# Altium integrated library molex-micro-fit-3.0.IntLib: 194 symbols (part 2 of 2)
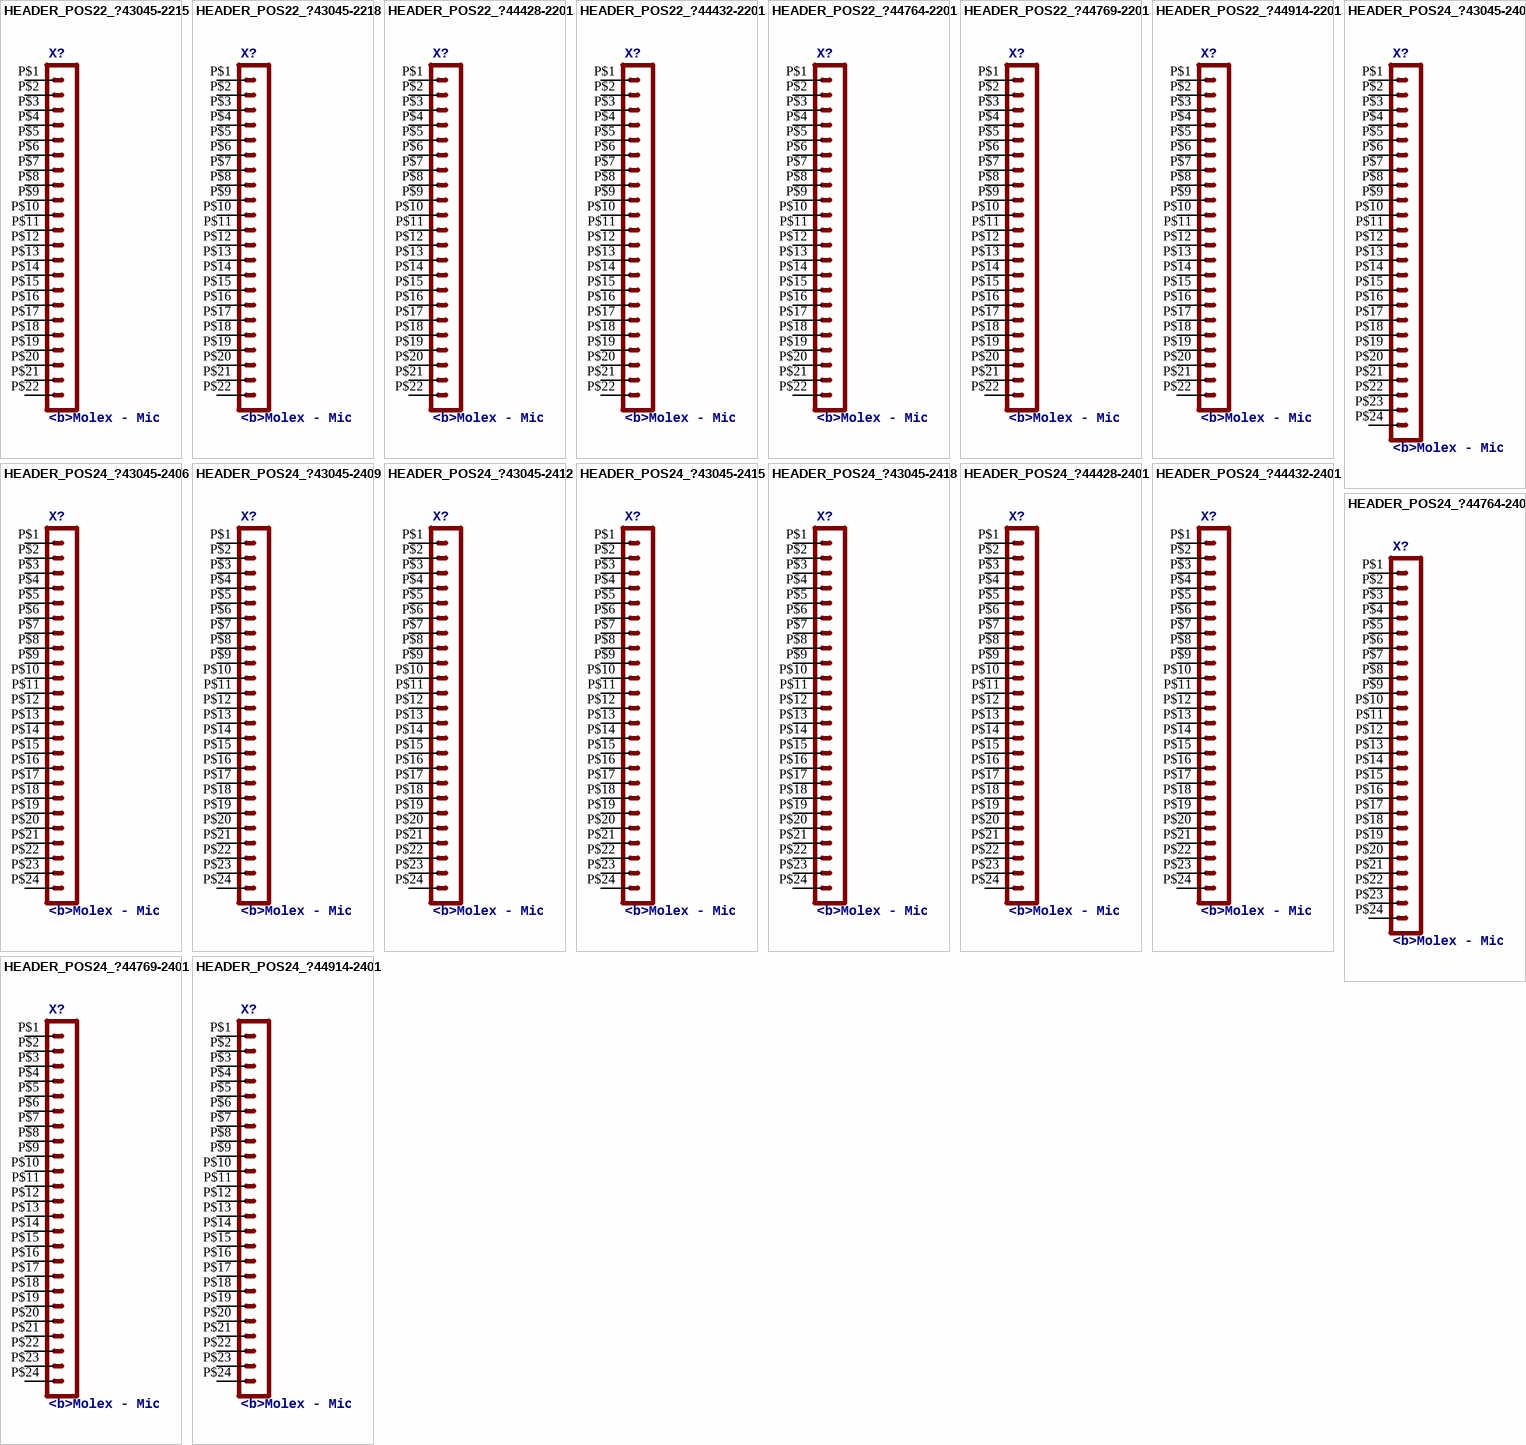
[diagram p6: symbols HEADER_POS22_?43045-2215 to HEADER_POS24_?44914-2401]

## HEADER_POS24_?44769-2401
designator X?, comment <b>Molex - Micro-Fit 3.0 Series connector,  3.00mm (0.118") pitch header, 24 positions.</b><p>
footprint 44769-2401
pins: P$1 1, P$2 2, P$3 3, P$4 4, P$5 5, P$6 6, P$7 7, P$8 8, P$9 9, P$10 10, P$11 11, P$12 12, P$13 13, P$14 14, P$15 15, P$16 16, P$17 17, P$18 18, P$19 19, P$20 20, P$21 21, P$22 22, P$23 23, P$24 24

## HEADER_POS24_?44914-2401
designator X?, comment <b>Molex - Micro-Fit 3.0 Series connector,  3.00mm (0.118") pitch header, 24 positions.</b><p>
footprint 44914-2401
pins: P$1 1, P$2 2, P$3 3, P$4 4, P$5 5, P$6 6, P$7 7, P$8 8, P$9 9, P$10 10, P$11 11, P$12 12, P$13 13, P$14 14, P$15 15, P$16 16, P$17 17, P$18 18, P$19 19, P$20 20, P$21 21, P$22 22, P$23 23, P$24 24